# EAGLE library part ILD30 (library optocoupler)
SIEMENS OPTO COUPLER
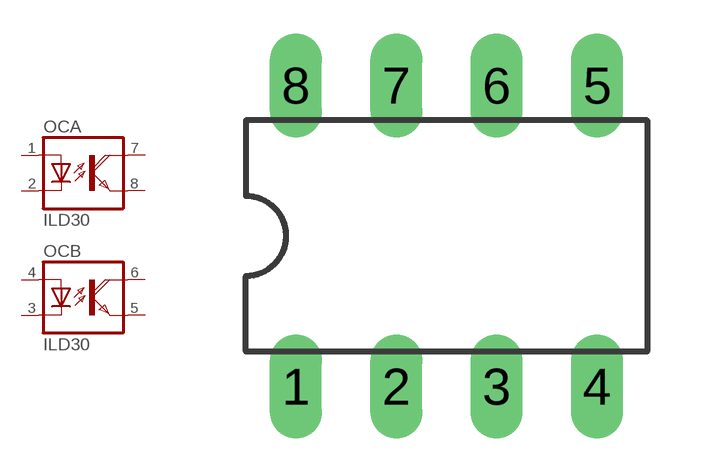
[diagram p3: symbol with the pads of DIL08; footprint DIL08]

Designator prefix OC; gates A=OK-D B=OK-D

## ILD30  [DIL08]
1  A:A  pas
2  A:C  pas
3  B:C  pas
4  B:A  pas
5  B:EMI  pas
6  B:COL  pas
7  A:COL  pas
8  A:EMI  pas

## Footprint DIL08 (pad centres in mm)
Dual In Line Package
drill 0.813 long: 1 -3.81,-3.81; 2 -1.27,-3.81; 3 1.27,-3.81; 4 3.81,-3.81; 5 3.81,3.81; 6 1.27,3.81; 7 -1.27,3.81; 8 -3.81,3.81